# Altium schematic symbol library FT232H.SchLib: 1 symbol
Pins are listed as number, name and electrical type; pins without a type are passive.

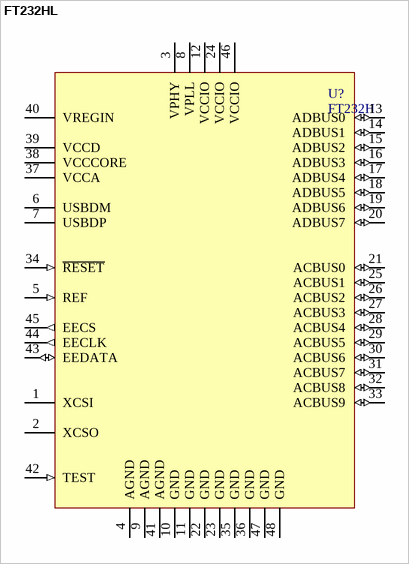
[diagram p0: symbol FT232HL]

## FT232HL
designator U?, comment FT232H
PDF: http://www.ftdichip.com/Support/Documents/DataSheets/ICs/DS_FT232H.pdf; ID: FT232H; PRICE: *; BUY_LINK: *
footprint LQFP48
pins: 1 XCSI, 2 XCSO, 3 VPHY (power), 4 AGND (power), 5 REF (in), 6 USBDM, 7 USBDP, 8 VPLL (power), 9 AGND (power), 10 GND (power), 11 GND (power), 12 VCCIO (power), 13 ADBUS0 (io), 14 ADBUS1 (io), 15 ADBUS2 (io), 16 ADBUS3 (io), 17 ADBUS4 (io), 18 ADBUS5 (io), 19 ADBUS6 (io), 20 ADBUS7 (io), 21 ACBUS0 (io), 22 GND (power), 23 GND (power), 24 VCCIO (power), 25 ACBUS1 (io), 26 ACBUS2 (io), 27 ACBUS3 (io), 28 ACBUS4 (io), 29 ACBUS5 (io), 30 ACBUS6 (io), 31 ACBUS7 (io), 32 ACBUS8 (io), 33 ACBUS9 (io), 34 ~{RESET} (in), 35 GND (power), 36 GND (power), 37 VCCA (power), 38 VCCCORE (power), 39 VCCD (power), 40 VREGIN (power), 41 AGND (power), 42 TEST (in), 43 EEDATA (io), 44 EECLK (out), 45 EECS (out), 46 VCCIO (power), 47 GND (power), 48 GND (power)
2 alternate drawings of the same symbol